# Altium footprint library LM2575LM.PcbLib: 1 footprints
Each footprint in its own frame and in the unit in brackets; x right, y up, seen from the top. Pads: shape width x height; smd on the part's side, far side on the other; paste and mask are expansions set on the pad; w line width, h text height; cw(c..) or ccw(c..) is an arc to the next point about the centre after c.
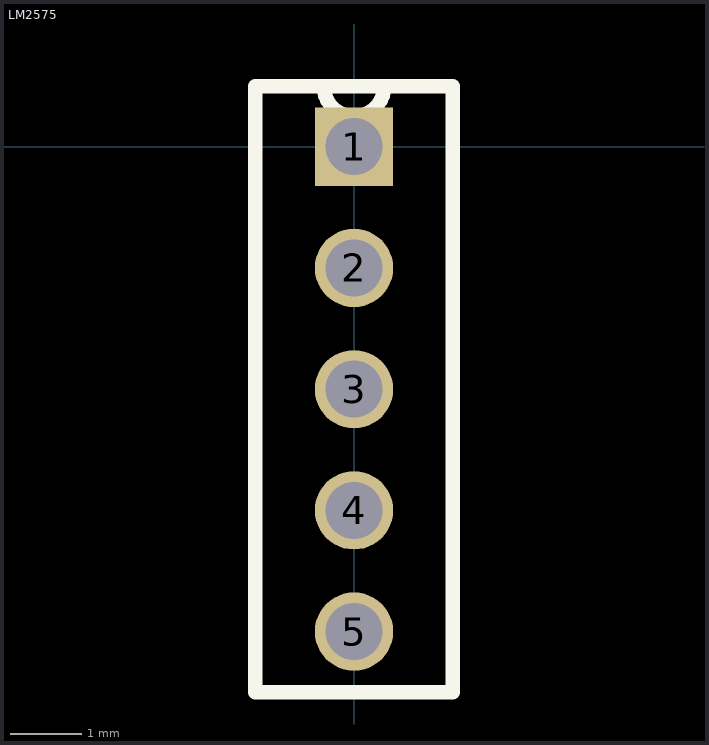
[diagram p0: the footprint, top view; thin cyan lines are the x and y axes]

## LM2575 [mm]
pads (5):
  rect 1.1x1.1 hole 0.8: 1(0,0)
  round 1.1 hole 0.8: 2(0,-1.7) 3(0,-3.4) 4(0,-5.1) 5(0,-6.8)
Top Overlay:
  lines w0.2: -1.385,-7.65 1.385,-7.65 1.385,0.85 -0.425,0.85 ccw(c0,0.85) 0.425,0.85 -1.385,0.85 -1.385,-7.65